# EAGLE library part ATMEGA2560_V2.0 (library eYFi-Mega_v2.0.1)
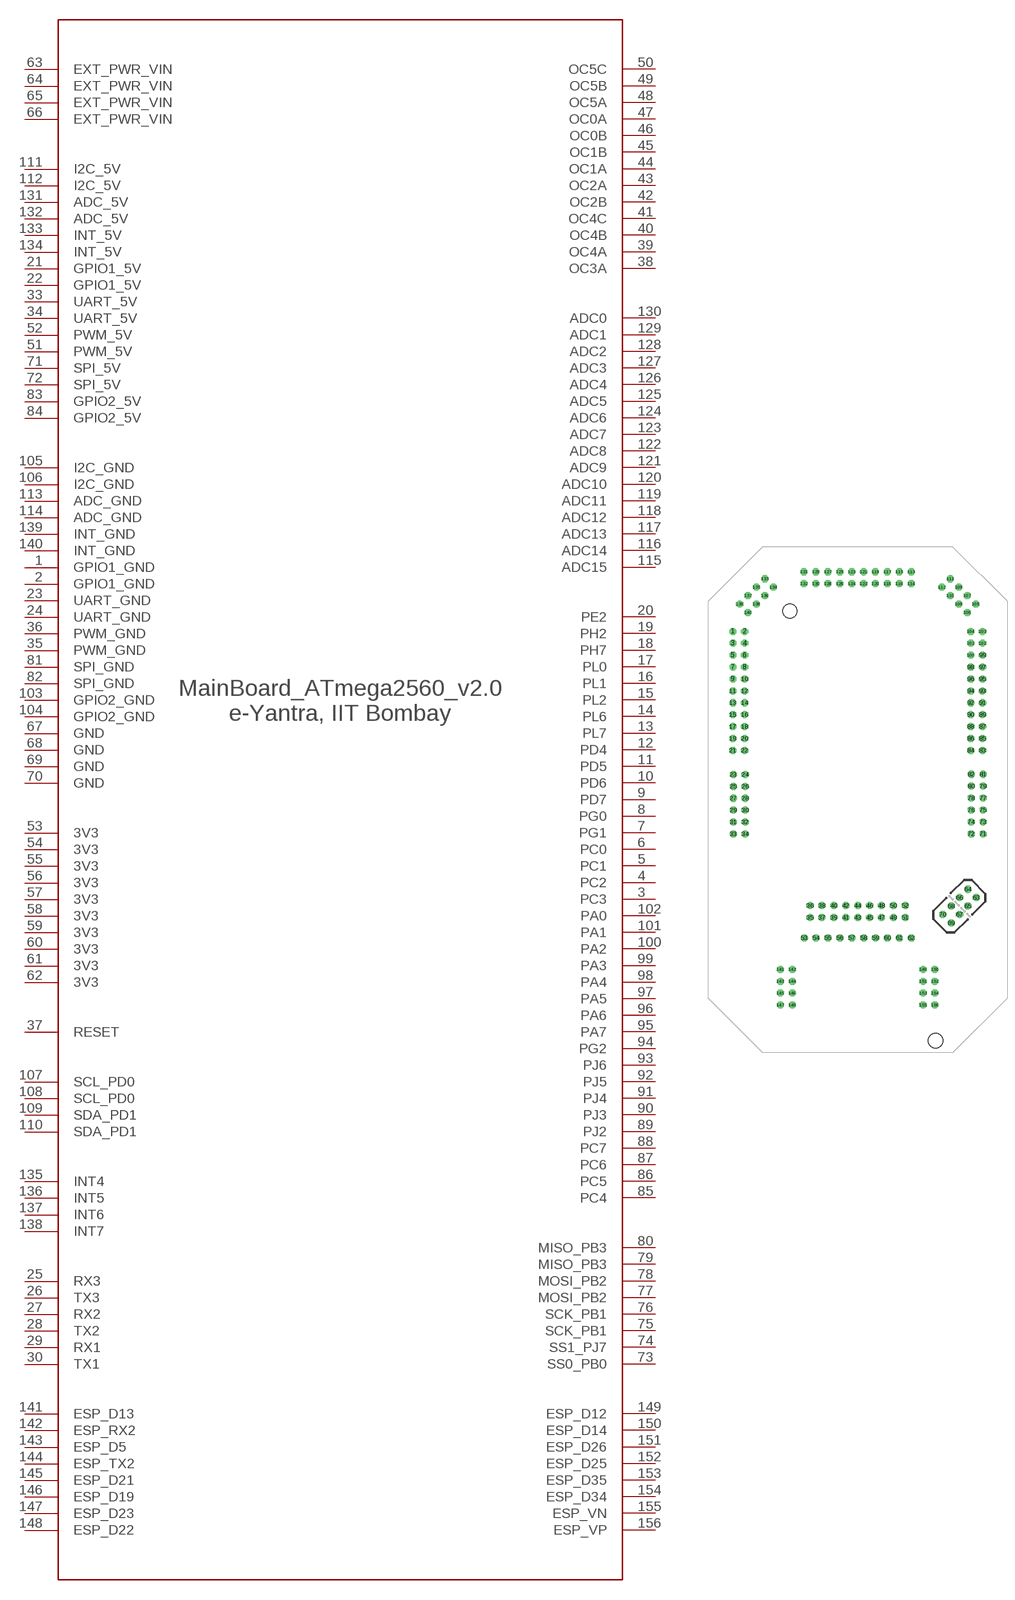
[diagram p0: symbol with the pads of ATMEGA2560_V2.0; footprint ATMEGA2560_V2.0]

Designator prefix -

## ATMEGA2560_V2.0  [ATMEGA2560_V2.0]
1  GPIO1_GND  pwr
2  GPIO1_GND  pwr
3  PC3
4  PC2
5  PC1
6  PC0
7  PG1
8  PG0
9  PD7
10  PD6
11  PD5
12  PD4
13  PL7
14  PL6
15  PL2
16  PL1
17  PL0
18  PH7
19  PH2
20  PE2
21  GPIO1_5V  pwr
22  GPIO1_5V  pwr
23  UART_GND  pwr
24  UART_GND  pwr
25  RX3
26  TX3
27  RX2
28  TX2
29  RX1
30  TX1
33  UART_5V  pwr
34  UART_5V  pwr
35  PWM_GND  pwr
36  PWM_GND  pwr
37  RESET
38  OC3A
39  OC4A
40  OC4B
41  OC4C
42  OC2B
43  OC2A
44  OC1A
45  OC1B
46  OC0B
47  OC0A
48  OC5A
49  OC5B
50  OC5C
51  PWM_5V  pwr
52  PWM_5V  pwr
53  3V3  pwr
54  3V3  pwr
55  3V3  pwr
56  3V3  pwr
57  3V3  pwr
58  3V3  pwr
59  3V3  pwr
60  3V3  pwr
61  3V3  pwr
62  3V3  pwr
63  EXT_PWR_VIN  pwr
64  EXT_PWR_VIN  pwr
65  EXT_PWR_VIN  pwr
66  EXT_PWR_VIN  pwr
67  GND  pwr
68  GND  pwr
69  GND  pwr
70  GND  pwr
71  SPI_5V  pwr
72  SPI_5V  pwr
73  SS0_PB0
74  SS1_PJ7
75  SCK_PB1
76  SCK_PB1
77  MOSI_PB2
78  MOSI_PB2
79  MISO_PB3
80  MISO_PB3
81  SPI_GND  pwr
82  SPI_GND  pwr
83  GPIO2_5V  pwr
84  GPIO2_5V  pwr
85  PC4
86  PC5
87  PC6
88  PC7
89  PJ2
90  PJ3
91  PJ4
92  PJ5
93  PJ6
94  PG2
95  PA7
96  PA6
97  PA5
98  PA4
99  PA3
100  PA2
101  PA1
102  PA0
103  GPIO2_GND  pwr
104  GPIO2_GND  pwr
105  I2C_GND  pwr
106  I2C_GND  pwr
107  SCL_PD0
108  SCL_PD0
109  SDA_PD1
110  SDA_PD1
111  I2C_5V  pwr
112  I2C_5V  pwr
113  ADC_GND  pwr
114  ADC_GND  pwr
115  ADC15
116  ADC14
117  ADC13
118  ADC12
119  ADC11
120  ADC10
121  ADC9
122  ADC8
123  ADC7
124  ADC6
125  ADC5
126  ADC4
127  ADC3
128  ADC2
129  ADC1
130  ADC0
131  ADC_5V  pwr
132  ADC_5V  pwr
133  INT_5V  pwr
134  INT_5V  pwr
135  INT4
136  INT5
137  INT6
138  INT7
139  INT_GND  pwr
140  INT_GND  pwr
141  ESP_D13
142  ESP_RX2
143  ESP_D5
144  ESP_TX2
145  ESP_D21
146  ESP_D19
147  ESP_D23
148  ESP_D22
149  ESP_D12
150  ESP_D14
151  ESP_D26
152  ESP_D25
153  ESP_D35
154  ESP_D34
155  ESP_VN
156  ESP_VP

## Footprint ATMEGA2560_V2.0 (pad centres in mm)
drill 1 octagon: 1 5.344,89.916; 2 7.884,89.916; 3 5.344,87.376; 4 7.884,87.376; 5 5.344,84.836; 6 7.884,84.836; 7 5.344,82.296; 8 7.884,82.296; 9 5.344,79.756; 10 7.884,79.756; 11 5.344,77.216; 12 7.884,77.216; 13 5.344,74.676; 14 7.884,74.676; 15 5.344,72.136; 16 7.884,72.136; 17 5.344,69.596; 18 7.884,69.596; 19 5.344,67.056; 20 7.884,67.056; 21 5.344,64.516; 22 7.884,64.516; 23 5.461,59.373; 24 8.001,59.373; 25 5.461,56.833; 26 8.001,56.833; 27 5.461,54.292; 28 8.001,54.292; 29 5.461,51.752; 30 8.001,51.752; 31 5.461,49.212; 32 8.001,49.212; 33 5.461,46.672; 34 8.001,46.672; 35 21.857,28.839; 36 21.857,31.379; 37 24.397,28.839; 38 24.397,31.379; 39 26.937,28.839; 40 26.937,31.379; 41 29.477,28.839; 42 29.477,31.379; 43 32.017,28.839; 44 32.017,31.379; 45 34.557,28.839; 46 34.557,31.379; 47 37.097,28.839; 48 37.097,31.379; 49 39.637,28.839; 50 39.637,31.379; 51 42.177,28.839; 52 42.177,31.379; 53 20.592,24.511; 54 23.132,24.511; 55 25.672,24.511; 56 28.212,24.511; 57 30.752,24.511; 58 33.292,24.511; 59 35.832,24.511; 60 38.372,24.511; 61 40.912,24.511; 62 43.452,24.511; 63 57.348,33.078; 64 55.552,34.874; 65 55.552,31.282; 66 53.756,33.078; 67 53.756,29.486; 68 51.96,31.282; 69 51.96,27.69; 70 50.164,29.486; 71 58.783,46.711; 72 56.243,46.711; 73 58.783,49.251; 74 56.243,49.251; 75 58.783,51.791; 76 56.243,51.791; 77 58.783,54.331; 78 56.243,54.331; 79 58.783,56.871; 80 56.243,56.871; 81 58.783,59.411; 82 56.243,59.411; 83 58.674,64.516; 84 56.134,64.516; 85 58.674,67.056; 86 56.134,67.056; 87 58.674,69.596; 88 56.134,69.596; 89 58.674,72.136; 90 56.134,72.136; 91 58.674,74.676; 92 56.134,74.676; 93 58.674,77.216; 94 56.134,77.216; 95 58.674,79.756; 96 56.134,79.756; 97 58.674,82.296; 98 56.134,82.296; 99 58.674,84.836; 100 56.134,84.836; 101 58.674,87.376; 102 56.134,87.376; 103 58.674,89.916; 104 56.134,89.916; 105 57.192,95.746; 106 55.396,93.95; 107 55.396,97.542; 108 53.6,95.746; 109 53.6,99.338; 110 51.804,97.542; 111 51.804,101.135; 112 50.008,99.338; 113 43.434,102.616; 114 43.434,100.076; 115 40.894,102.616; 116 40.894,100.076; 117 38.354,102.616; 118 38.354,100.076; 119 35.814,102.616; 120 35.814,100.076; 121 33.274,102.616; 122 33.274,100.076; 123 30.734,102.616; 124 30.734,100.076; 125 28.194,102.616; 126 28.194,100.076; 127 25.654,102.616; 128 25.654,100.076; 129 23.114,102.616; 130 23.114,100.076; 131 20.574,102.616; 132 20.574,100.076; 133 12.208,101.133; 134 14.004,99.337; 135 10.411,99.337; 136 12.208,97.541; 137 8.615,97.541; 138 10.411,95.745; 139 6.819,95.745; 140 8.615,93.949; 141 15.494,17.78; 142 18.034,17.78; 143 15.494,15.24; 144 18.034,15.24; 145 15.494,12.7; 146 18.034,12.7; 147 15.494,10.16; 148 18.034,10.16; 149 45.974,17.78; 150 48.514,17.78; 151 45.974,15.24; 152 48.514,15.24; 153 45.974,12.7; 154 48.514,12.7; 155 45.974,10.16; 156 48.514,10.16
hole 3.048 at 17.526,94.234
hole 3.048 at 48.641,2.54